# Altium schematic symbol library CD4013.SchLib: 1 symbol
Pins are listed as number, name and electrical type; pins without a type are passive.

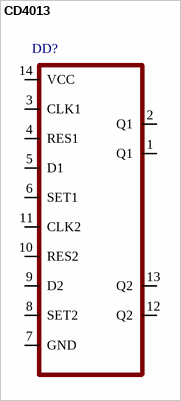
[diagram p0: symbol CD4013]

## CD4013
designator DD?
footprint SO16-150
footprint SO14-150
pins: 1 Q1, 2 Q1, 3 CLK1, 4 RES1, 5 D1, 6 SET1, 7 GND, 8 SET2, 9 D2, 10 RES2, 11 CLK2, 12 Q2, 13 Q2, 14 VCC